# Altium schematic symbol library EliteSTM32.SCHLIB: 47 symbols
Pins are listed as number, name and electrical type; pins without a type are passive.

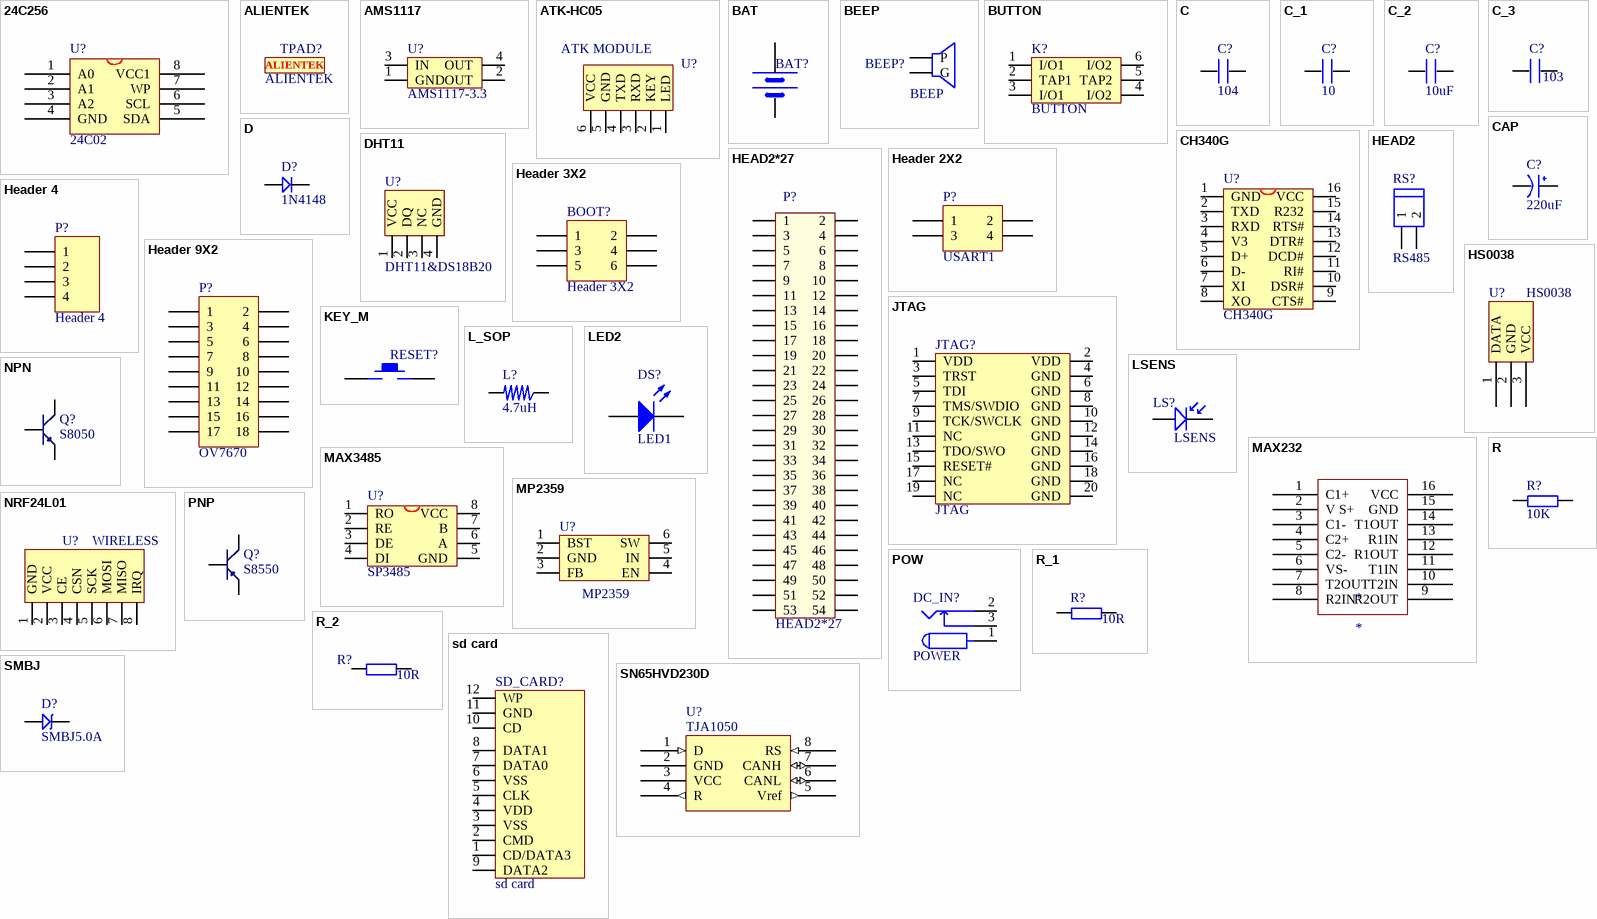
[diagram p0: symbols 24C256 to SN65HVD230D]

## 24C256
designator U?, comment 24C02
footprint SOP-8 (SOP)
pins: 1 A0, 2 A1, 3 A2, 4 GND, 5 SDA, 6 SCL, 7 WP, 8 VCC1

## ALIENTEK
designator TPAD?
footprint ALIENTEK_PAD1

## AMS1117
designator U?, comment AMS1117-3.3
footprint AMS1117
pins: 1 GND, 2 OUT, 3 IN, 4 OUT

## ATK-HC05
designator U?, comment ATK MODULE
ATK-HC05
footprint HEAD6 (PIN:2.54mm;HEAD;)
pins: 1 LED, 2 KEY, 3 RXD, 4 TXD, 5 GND, 6 VCC

## BAT
designator BAT?, comment BATT  (value not drawn)
footprint BATM (BAT)
pins: 1 VCC, 2 GND

## BEEP
designator BEEP?
footprint BUZZ0.25
footprint BELL-5 (PIN:5MM,SIZE:10MM)
pins: 1 P, 2 G

## BUTTON
designator K?
footprint BTN8.5*8.5 (8.5MM*8.5MM)
footprint BTN7*7 (7mm*7mm)
pins: 1 I/O1, 2 TAP1, 3 I/O1, 4 I/O2, 5 TAP2, 6 I/O2

## C
designator C?, comment 104
footprint 0603P
footprint 0805
pins: 1, 2

## C_1
designator C?, comment 10
footprint 0603P
pins: 1, 2

## C_2
designator C?, comment 10uF
footprint 0603P
footprint 0805
footprint CC5.08 (CAP0.1)
footprint CC4.572 (222/332)
footprint 1206
footprint 1210
footprint CC6.096
footprint CC7.62
pins: 1, 2

## C_3
designator C?, comment 103
footprint 0603P
footprint 0805
footprint CC5.08 (CAP0.1)
footprint CC4.572 (222/332)
footprint 1206
footprint 1210
footprint CC6.096
footprint CC7.62
footprint CVAR (4MM*6.6MM)
pins: 1, 2

## CAP
designator C?, comment 220uF
footprint C1206
footprint CAP2.54 (RB.1/.2)
footprint CAP5.08 (RB.2/.4)
footprint CAP7.62 (25V 2200uF)
footprint CAP10.16 (50V10000uF)
footprint CAP10.9 (50V 2200uF)
footprint CAP3.0 (100V 10uF)
footprint CAP8.0 (25V/4700uF)
footprint CAP8.0_2 (50V/4700uF)
footprint C7040 (7MM*4MM)
footprint CC1010 (SMD;W:10mm;L:10mm;)
footprint CC6.56.5 (SMD;W:6.5mm;L:6.5mm;)
footprint CC88 (SMD;W:8mm;L:8mm;)
pins: 1 VCC, 2 GND

## CH340G
designator U?
USB2UART
footprint SOP16M (Small Outline; 16 Leads; Body Width 3.9 mm; Pitch 1.27 mm)
pins: 1 GND, 2 TXD, 3 RXD, 4 V3, 5 D+, 6 D-, 7 XI, 8 XO, 9 CTS#, 10 DSR#, 11 RI#, 12 DCD#, 13 DTR#, 14 RTS#, 15 R232, 16 VCC

## D
designator D?, comment 1N4148
footprint SOD-123
footprint DIODE_SOP (4148)
footprint DIODE-L (6A10)
footprint DIODE-M (1N5822)
footprint DIODE_S (1N4007)
footprint DIODE_3*5.3 (ME:SS14/SS24;L:5.3mm;W:3mm;)
footprint DIODE_4*5.6 (ME:RS2J.L:5.6mm;W:4mm)
footprint DIODE_6.2*8.13 (ME:RS2J.L:8.13mm;W:6.2mm)
pins: 1, 2

## DHT11
designator U?, comment DHT11&DS18B20
数字温湿度传感器
footprint DHT11 (2.54mm)
pins: 1 VCC, 2 DQ, 3 NC, 4 GND

## HEAD2
designator RS?, comment RS485
footprint HEAD2H (HEAD5.08)
footprint HEAD2L (HEAD5.08)
footprint HEAD2L-0.8 (10.16mm*10.16mm,pin:5.08mm)
footprint HEAD2W (2EDG-2,pin:5.08mm)
pins: 1, 2

## HEAD2*27
designator P?
footprint HEAD2*27 (PIN:2.54mm;HEAD;)
pins: 1, 2, 3, 4, 5, 6, 7, 8, 9, 10, 11, 12, 13, 14, 15, 16, 17, 18, 19, 20, 21, 22, 23, 24, 25, 26, 27, 28, 29, 30, 31, 32, 33, 34, 35, 36, 37, 38, 39, 40, 41, 42, 43, 44, 45, 46, 47, 48, 49, 50, 51, 52, 53, 54

## Header 2X2
designator P?, comment USART1
Header, 2-Pin, Dual row; LatestRevisionDate: 17-Jul-2002; LatestRevisionNote: Re-released for DXP Platform.; Publisher: Altium Limited
footprint HDR2X2 (Connector; Header; 2x2 Position)
pins: 1, 2, 3, 4

## Header 3X2
designator BOOT?
Header, 3-Pin, Dual row; LatestRevisionDate: 17-Jul-2002; LatestRevisionNote: Re-released for DXP Platform.; Publisher: Altium Limited
footprint HDR2X3 (Connector; Header; 3x2 Position)
pins: 1, 2, 3, 4, 5, 6

## Header 4
designator P?
Header, 4-Pin; LatestRevisionDate: 17-Jul-2002; LatestRevisionNote: Re-released for DXP Platform.; Publisher: Altium Limited
footprint HDR1X4 (Connector; Header; 4 Position)
signal-integrity model Connector
pins: 1, 2, 3, 4

## Header 9X2
designator P?, comment OV7670
Header, 9-Pin, Dual row; LatestRevisionDate: 17-Jul-2002; LatestRevisionNote: Re-released for DXP Platform.; Publisher: Altium Limited
footprint HDR2X9 (Connector; Header; 9x2 Position)
pins: 1, 2, 3, 4, 5, 6, 7, 8, 9, 10, 11, 12, 13, 14, 15, 16, 17, 18

## HS0038
designator U?
footprint HS0038
pins: 1 DATA, 2 GND, 3 VCC

## JTAG
designator JTAG?
footprint JTAG (ULINK_JTAG-20)
footprint JTAG_20 (JTAG,20PIN)
pins: 1 VDD, 2 VDD, 3 TRST, 4 GND, 5 TDI, 6 GND, 7 TMS/SWDIO, 8 GND, 9 TCK/SWCLK, 10 GND, 11 NC, 12 GND, 13 TDO/SWO, 14 GND, 15 RESET#, 16 GND, 17 NC, 18 GND, 19 NC, 20 GND

## KEY_M
designator RESET?  (value not drawn)
footprint KEY_M (KEY_MID)
footprint KEY_2 (KEY?)
footprint KEY_SOP_BG (KEY?)
pins: 1, 2

## L_SOP
designator L?, comment 4.7uH
footprint L_SOPL (L_LARGE)
footprint L_SOPS (L_4*4)
footprint L10 (10mH)
footprint L_SOP74 (7.4*7.4)
pins: 1, 2

## LED2
designator DS?, comment LED1
Typical RED, GREEN, YELLOW, AMBER GaAs LED; Published: 8-Jun-2000; LatestRevisionDate: 17-Jul-2002; LatestRevisionNote: Re-released for DXP Platform.; PackageDocument: Feb-2002; PackageReference: 3.2X1.6X1.1; Publisher: Altium Limited
footprint SMDLED
simulation model LED2 (Diode)
pins: 1 A, 2 K

## LSENS
designator LS?
LIGHT SENS
footprint SMDLED
pins: 1, 2

## MAX232
designator *
pins: 1 C1+, 2 V S+, 3 C1-, 4 C2+, 5 C2-, 6 VS-, 7 T2OUT, 8 R2IN, 9 R2OUT, 10 T2IN, 11 T1IN, 12 R1OUT, 13 R1IN, 14 T1OUT, 15 GND, 16 VCC

## MAX3485
designator U?, comment SP3485
footprint SOP-8 (SOP)
pins: 1 RO, 2 RE, 3 DE, 4 DI, 5 GND, 6 A, 7 B, 8 VCC

## MP2359
designator U?
DC DC Step Down IC
footprint SOT-23-6
pins: 1 BST, 2 GND, 3 FB, 4 EN, 5 IN, 6 SW

## NPN
designator Q?, comment S8050
8050/BCW846/BCW847
footprint SOT-23R (SOT-23; 3 Leads; Body 3.0 x 2.5 mm, inc. leads (LxW max))
footprint NPN
pins: 1 E, 2 B, 3 C

## NRF24L01
designator U?, comment WIRELESS
footprint NRF24L01
pins: 1 GND, 2 VCC, 3 CE, 4 CSN, 5 SCK, 6 MOSI, 7 MISO, 8 IRQ

## PNP
designator Q?, comment S8550
8550/BCW68
footprint NPN
footprint SOT-23R (SOT-23; 3 Leads; Body 3.0 x 2.5 mm, inc. leads (LxW max))
pins: 1 E, 2 B, 3 C

## POW
designator DC_IN?, comment POWER
footprint POWER (DC_IN)
footprint DC10B
pins: 1, 2, 3

## R
designator R?, comment 10K
footprint 0603P
pins: 1, 2

## R_1
designator R?, comment 10R
footprint 0805
footprint 0603P
footprint RL (10o/0.7uH)
footprint R16.0 (RX/1W)
footprint 1206
footprint 1210
footprint R20.0 (RX/2W)
footprint R10.16 (STD)
footprint RLN9 (13.5mm*5.1mm)
pins: 1, 2

## R_2
designator R?, comment 10R
footprint 0805
footprint 0603P
pins: 1, 2

## sd card
designator SD_CARD?
footprint SDCARD_S (SDCARD_SMALL)
footprint SDCARD_L
pins: 1 CD/DATA3, 2 CMD, 3 VSS, 4 VDD, 5 CLK, 6 VSS, 7 DATA0, 8 DATA1, 9 DATA2, 10 CD, 11 GND, 12 WP

## SMBJ
designator D?, comment SMBJ5.0A
TVS
footprint SMBJ (3.9*5.6)
pins: 1, 2

## SN65HVD230D
designator U?, comment TJA1050
footprint SOP-8 (SSOP8)
footprint SO8
pins: 1 D (in), 2 GND (power), 3 VCC (power), 4 R (out), 5 Vref (out), 6 CANL (io), 7 CANH (io), 8 RS (in)
2 alternate drawings of the same symbol

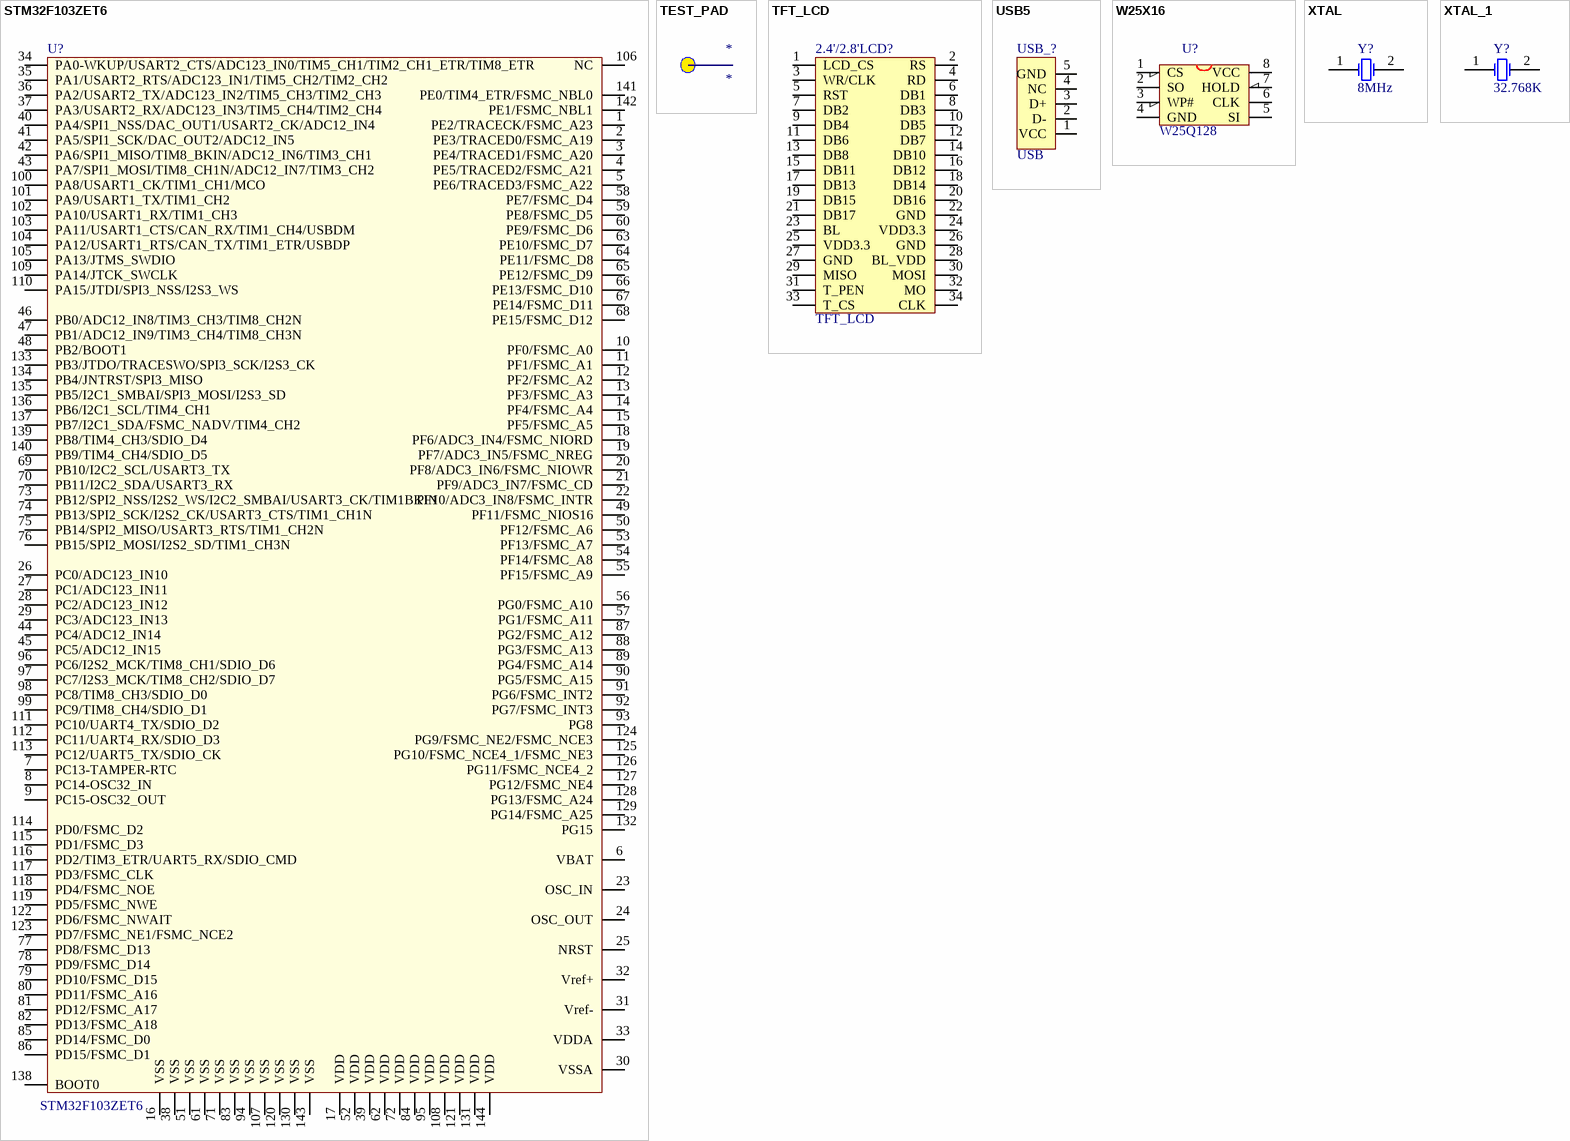
[diagram p1: symbols STM32F103ZET6 to XTAL_1]

## STM32F103ZET6
designator U?
footprint LQFP144
pins: 1 PE2/TRACECK/FSMC_A23, 2 PE3/TRACED0/FSMC_A19, 3 PE4/TRACED1/FSMC_A20, 4 PE5/TRACED2/FSMC_A21, 5 PE6/TRACED3/FSMC_A22, 6 VBAT, 7 PC13-TAMPER-RTC, 8 PC14-OSC32_IN, 9 PC15-OSC32_OUT, 10 PF0/FSMC_A0, 11 PF1/FSMC_A1, 12 PF2/FSMC_A2, 13 PF3/FSMC_A3, 14 PF4/FSMC_A4, 15 PF5/FSMC_A5, 16 VSS, 17 VDD, 18 PF6/ADC3_IN4/FSMC_NIORD, 19 PF7/ADC3_IN5/FSMC_NREG, 20 PF8/ADC3_IN6/FSMC_NIOWR, 21 PF9/ADC3_IN7/FSMC_CD, 22 PF10/ADC3_IN8/FSMC_INTR, 23 OSC_IN, 24 OSC_OUT, 25 NRST, 26 PC0/ADC123_IN10, 27 PC1/ADC123_IN11, 28 PC2/ADC123_IN12, 29 PC3/ADC123_IN13, 30 VSSA, 31 Vref-, 32 Vref+, 33 VDDA, 34 PA0-WKUP/USART2_CTS/ADC123_IN0/TIM5_CH1/TIM2_CH1_ETR/TIM8_ETR, 35 PA1/USART2_RTS/ADC123_IN1/TIM5_CH2/TIM2_CH2, 36 PA2/USART2_TX/ADC123_IN2/TIM5_CH3/TIM2_CH3, 37 PA3/USART2_RX/ADC123_IN3/TIM5_CH4/TIM2_CH4, 38 VSS, 39 VDD, 40 PA4/SPI1_NSS/DAC_OUT1/USART2_CK/ADC12_IN4, 41 PA5/SPI1_SCK/DAC_OUT2/ADC12_IN5, 42 PA6/SPI1_MISO/TIM8_BKIN/ADC12_IN6/TIM3_CH1, 43 PA7/SPI1_MOSI/TIM8_CH1N/ADC12_IN7/TIM3_CH2, 44 PC4/ADC12_IN14, 45 PC5/ADC12_IN15, 46 PB0/ADC12_IN8/TIM3_CH3/TIM8_CH2N, 47 PB1/ADC12_IN9/TIM3_CH4/TIM8_CH3N, 48 PB2/BOOT1, 49 PF11/FSMC_NIOS16, 50 PF12/FSMC_A6, 51 VSS, 52 VDD, 53 PF13/FSMC_A7, 54 PF14/FSMC_A8, 55 PF15/FSMC_A9, 56 PG0/FSMC_A10, 57 PG1/FSMC_A11, 58 PE7/FSMC_D4, 59 PE8/FSMC_D5, 60 PE9/FSMC_D6, 61 VSS, 62 VDD, 63 PE10/FSMC_D7, 64 PE11/FSMC_D8, 65 PE12/FSMC_D9, 66 PE13/FSMC_D10, 67 PE14/FSMC_D11, 68 PE15/FSMC_D12, 69 PB10/I2C2_SCL/USART3_TX, 70 PB11/I2C2_SDA/USART3_RX, 71 VSS, 72 VDD, 73 PB12/SPI2_NSS/I2S2_WS/I2C2_SMBAI/USART3_CK/TIM1BKIN, 74 PB13/SPI2_SCK/I2S2_CK/USART3_CTS/TIM1_CH1N, 75 PB14/SPI2_MISO/USART3_RTS/TIM1_CH2N, 76 PB15/SPI2_MOSI/I2S2_SD/TIM1_CH3N, 77 PD8/FSMC_D13, 78 PD9/FSMC_D14, 79 PD10/FSMC_D15, 80 PD11/FSMC_A16, 81 PD12/FSMC_A17, 82 PD13/FSMC_A18, 83 VSS, 84 VDD, 85 PD14/FSMC_D0, 86 PD15/FSMC_D1, 87 PG2/FSMC_A12, 88 PG3/FSMC_A13, 89 PG4/FSMC_A14, 90 PG5/FSMC_A15, 91 PG6/FSMC_INT2, 92 PG7/FSMC_INT3, 93 PG8, 94 VSS, 95 VDD, 96 PC6/I2S2_MCK/TIM8_CH1/SDIO_D6, 97 PC7/I2S3_MCK/TIM8_CH2/SDIO_D7, 98 PC8/TIM8_CH3/SDIO_D0, 99 PC9/TIM8_CH4/SDIO_D1, 100 PA8/USART1_CK/TIM1_CH1/MCO, 101 PA9/USART1_TX/TIM1_CH2, 102 PA10/USART1_RX/TIM1_CH3, 103 PA11/USART1_CTS/CAN_RX/TIM1_CH4/USBDM, 104 PA12/USART1_RTS/CAN_TX/TIM1_ETR/USBDP, 105 PA13/JTMS_SWDIO, 106 NC, 107 VSS, 108 VDD, 109 PA14/JTCK_SWCLK, 110 PA15/JTDI/SPI3_NSS/I2S3_WS, 111 PC10/UART4_TX/SDIO_D2, 112 PC11/UART4_RX/SDIO_D3, 113 PC12/UART5_TX/SDIO_CK, 114 PD0/FSMC_D2, 115 PD1/FSMC_D3, 116 PD2/TIM3_ETR/UART5_RX/SDIO_CMD, 117 PD3/FSMC_CLK, 118 PD4/FSMC_NOE, 119 PD5/FSMC_NWE, 120 VSS, 121 VDD, 122 PD6/FSMC_NWAIT, 123 PD7/FSMC_NE1/FSMC_NCE2, 124 PG9/FSMC_NE2/FSMC_NCE3, 125 PG10/FSMC_NCE4_1/FSMC_NE3, 126 PG11/FSMC_NCE4_2, 127 PG12/FSMC_NE4, 128 PG13/FSMC_A24, 129 PG14/FSMC_A25, 130 VSS, 131 VDD, 132 PG15, 133 PB3/JTDO/TRACESWO/SPI3_SCK/I2S3_CK, 134 PB4/JNTRST/SPI3_MISO, 135 PB5/I2C1_SMBAI/SPI3_MOSI/I2S3_SD, 136 PB6/I2C1_SCL/TIM4_CH1, 137 PB7/I2C1_SDA/FSMC_NADV/TIM4_CH2, 138 BOOT0, 139 PB8/TIM4_CH3/SDIO_D4, 140 PB9/TIM4_CH4/SDIO_D5, 141 PE0/TIM4_ETR/FSMC_NBL0, 142 PE1/FSMC_NBL1, 143 VSS, 144 VDD

## TEST_PAD
designator *
pins: 1

## TFT_LCD
designator 2.4'/2.8'LCD?
footprint db2*17-4.3 (DB_LCD-4.3')
pins: 1 LCD_CS, 2 RS, 3 WR/CLK, 4 RD, 5 RST, 6 DB1, 7 DB2, 8 DB3, 9 DB4, 10 DB5, 11 DB6, 12 DB7, 13 DB8, 14 DB10, 15 DB11, 16 DB12, 17 DB13, 18 DB14, 19 DB15, 20 DB16, 21 DB17, 22 GND, 23 BL, 24 VDD3.3, 25 VDD3.3, 26 GND, 27 GND, 28 BL_VDD, 29 MISO, 30 MOSI, 31 T_PEN, 32 MO, 33 T_CS, 34 CLK

## USB5
designator USB_?, comment USB
footprint USB/SM0.8-6H5
pins: 1 VCC, 2 D-, 3 D+, 4 NC, 5 GND

## W25X16
designator U?, comment W25Q128
W25X16;SST25VF016;MX25L1605
footprint SOIC-8 (SOIC)
pins: 1 CS, 2 SO, 3 WP#, 4 GND, 5 SI, 6 CLK, 7 HOLD, 8 VCC

## XTAL
designator Y?, comment 8MHz
Crystal Oscillator; Published: 8-Jun-2000; LatestRevisionDate: 17-Jul-2002; LatestRevisionNote: Re-released for DXP Platform.; Publisher: Altium Limited
footprint XTAL_US
simulation model XTAL (Spice Subcircuit)
pins: 1 OSC1, 2 OSC2

## XTAL_1
designator Y?, comment 32.768K
Crystal Oscillator; Published: 8-Jun-2000; LatestRevisionDate: 17-Jul-2002; LatestRevisionNote: Re-released for DXP Platform.; Publisher: Altium Limited
footprint XTAL32
simulation model XTAL (Spice Subcircuit)
pins: 1 OSC1, 2 OSC2